# Altium schematic symbol library SCH - POWER - LINEAR VREG - TI LP3965-ADJNDC.SchLib: 1 symbol
Pins are listed as number, name and electrical type; pins without a type are passive.

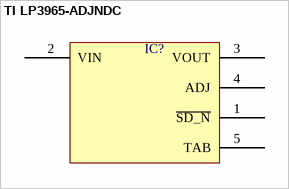
[diagram p0: symbol TI LP3965-ADJNDC]

## TI LP3965-ADJNDC
designator IC?  (value not drawn)
pins: 1 ~{SD_N}, 2 VIN, 3 VOUT, 4 ADJ, 5 TAB